# Altium schematic symbol library ERJ3EKF4122V.SchLib: 1 symbol
Pins are listed as number, name and electrical type; pins without a type are passive.

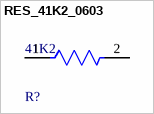
[diagram p0: symbol RES_41K2_0603]

## RES_41K2_0603
designator R?, comment 41K2
-55℃~+155℃ 100mW 41.2kΩ 75V Thick Film Resistor ±1% ±100ppm/℃ 0603 Chip Resistor - Surface Mount ROHS; NexarPartId: 55421749; Temperature Coefficient: 100ppm/°C; Voltage Rating (DC): 50V; Schedule B: 8533210045, 8533210045|8533210045|8533210045|8533210045|8533210045; Case Code (Imperial): 0603; REACH SVHC: No SVHC; Power Rating: 100mW; Mount: Surface Mount; Min Operating Temperature: -55°C; RoHS: Compliant; Military Standard: Not; Case Code (Metric): 1608; Features: Automotive AEC-Q200; Max Operating Temperature: 155°C; Lifecycle Status: Production; Number of Terminations: 2; Lead Free: Lead Free; Contact Plating: Tin; Length: 1.6mm; Width: 787.4µm; Case/Package: 0603; Termination: SMD/SMT; Max Power Dissipation: 100mW; Packaging: Cut Tape (CT); Tolerance: 1%; Depth: 800µm; Height: 558.8µm; Radiation Hardening: No; Voltage Rating: 75V; Resistance: 41.2kΩ; Composition: Thick Film
footprint FP-ERJ3EK-IPC_C
footprint FP-ERJ3EK-MFG
footprint FP-ERJ3EK-IPC_A
footprint FP-ERJ3EK-IPC_B
pins: 1, 2